# Altium integrated library Integrated Device Technology.IntLib: 2 symbols
Pins are listed as number, name and electrical type; pins without a type are passive.

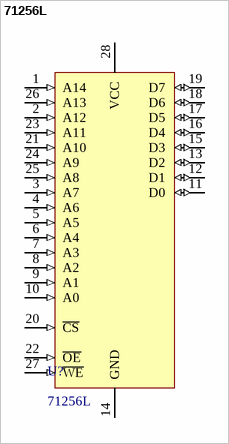
[diagram p0: symbol 71256L]

## 71256L
designator U?
CMOS Static RAM 256K (32Kx8-Bit)
footprint DIP28 - 300
footprint DIP28 - 600
footprint SOJ28
pins: 1 A14 (in), 2 A12 (in), 3 A7 (in), 4 A6 (in), 5 A5 (in), 6 A4 (in), 7 A3 (in), 8 A2 (in), 9 A1 (in), 10 A0 (in), 11 D0 (io), 12 D1 (io), 13 D2 (io), 14 GND (power), 15 D3 (io), 16 D4 (io), 17 D5 (io), 18 D6 (io), 19 D7 (io), 20 ~{CS} (in), 21 A10 (in), 22 ~{OE} (in), 23 A11 (in), 24 A9 (in), 25 A8 (in), 26 A13 (in), 27 ~{WE} (in), 28 VCC (power)


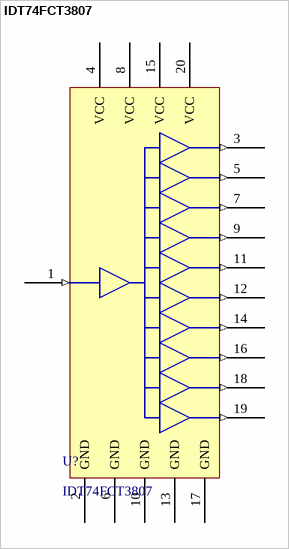
[diagram p1: symbol IDT74FCT3807]

## IDT74FCT3807
designator U?
1 to 10 Clock Driver
footprint QSOP-20
footprint SSOP-20
pins: 1 IN (in), 2 GND (power), 3 O1 (out), 4 VCC (power), 5 O2 (out), 6 GND (power), 7 O3 (out), 8 VCC (power), 9 O4 (out), 10 GND (power), 11 O5 (out), 12 O6 (out), 13 GND (power), 14 O7 (out), 15 VCC (power), 16 O8 (out), 17 GND (power), 18 O9 (out), 19 O10 (out), 20 VCC (power)